# Altium footprint library TERM_5.08MM_2X1.PcbLib: 1 footprints
Each footprint in its own frame and in the unit in brackets; x right, y up, seen from the top. Pads: shape width x height; smd on the part's side, far side on the other; paste and mask are expansions set on the pad; w line width, h text height; cw(c..) or ccw(c..) is an arc to the next point about the centre after c.
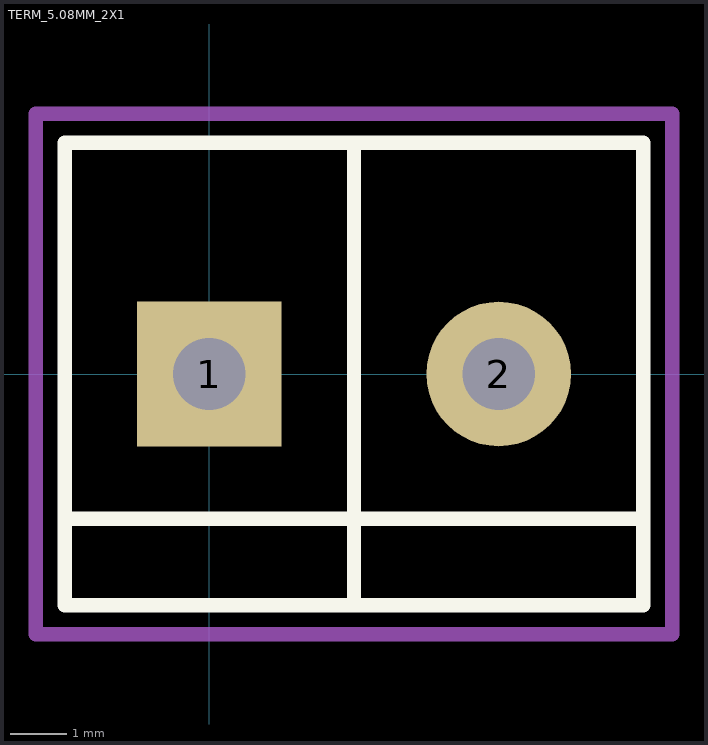
[diagram p0: the footprint, top view; thin cyan lines are the x and y axes]

## TERM_5.08MM_2X1 [mil]
pads (2):
  rect 100x100 hole 50: 1(0,0)
  round 100 hole 50: 2(200,0)
Top Overlay:
  lines w10: -100,-100 300,-100 ; 100,-160 100,160 ; -100,-160 300,-160 300,160 -100,160 -100,-160
Mechanical 15:
  lines w10: -120,-180 320,-180 320,180 -120,180 -120,-180